# Altium integrated library ACS712ELCTR05BT.IntLib: 2 symbols
Pins are listed as number, name and electrical type; pins without a type are passive.

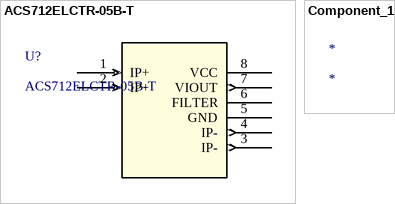
[diagram p0: symbols ACS712ELCTR-05B-T to Component_1]

## ACS712ELCTR-05B-T
designator U?
No Description Available; Vendor: Allegro Microsystems Inc.; Built_By: EMA_UL_Team; SourceLibrary: Allegro_2014-07-30; Manufacturer_Part_Number: ACS712ELCTR-05B-T; Copyright: Copyright (C) 2018 Accelerated Designs. All rights reserved; RefDes: RefDes; Type: DEV
footprint SOIC-8_ALM
pins: 1 IP+ (in), 2 IP+ (in), 3 IP- (out), 4 IP- (out), 5 GND (power), 6 FILTER, 7 VIOUT (out), 8 VCC (power)

## Component_1
designator *